# EAGLE library part ESP-01 (library Brendan)
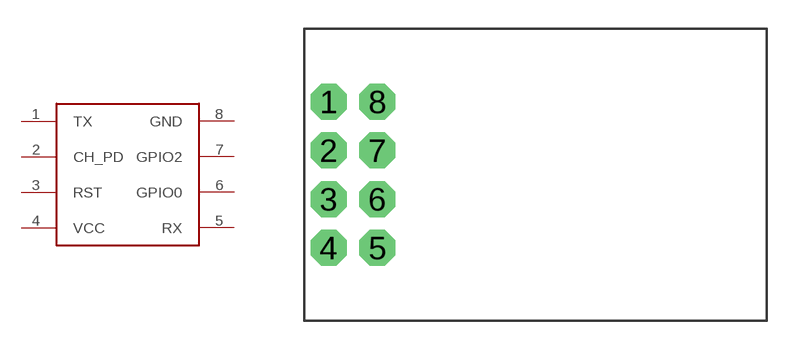
[diagram p7: symbol with the pads of ESP-01; footprint ESP-01]

Designator prefix -

## ESP-01  [ESP-01]
1  TX
2  CH_PD
3  RST
4  VCC
5  RX
6  GPIO0
7  GPIO2
8  GND

## Footprint ESP-01 (pad centres in mm)
drill 1.016 pad 1.88 octagon: 1 -11.43,3.81; 2 -11.43,1.27; 3 -11.43,-1.27; 4 -11.43,-3.81; 5 -8.89,-3.81; 6 -8.89,-1.27; 7 -8.89,1.27; 8 -8.89,3.81